# Altium footprint library BSS138.PcbLib: 1 footprints
Each footprint in its own frame and in the unit in brackets; x right, y up, seen from the top. Pads: shape width x height; smd on the part's side, far side on the other; paste and mask are expansions set on the pad; w line width, h text height; cw(c..) or ccw(c..) is an arc to the next point about the centre after c.
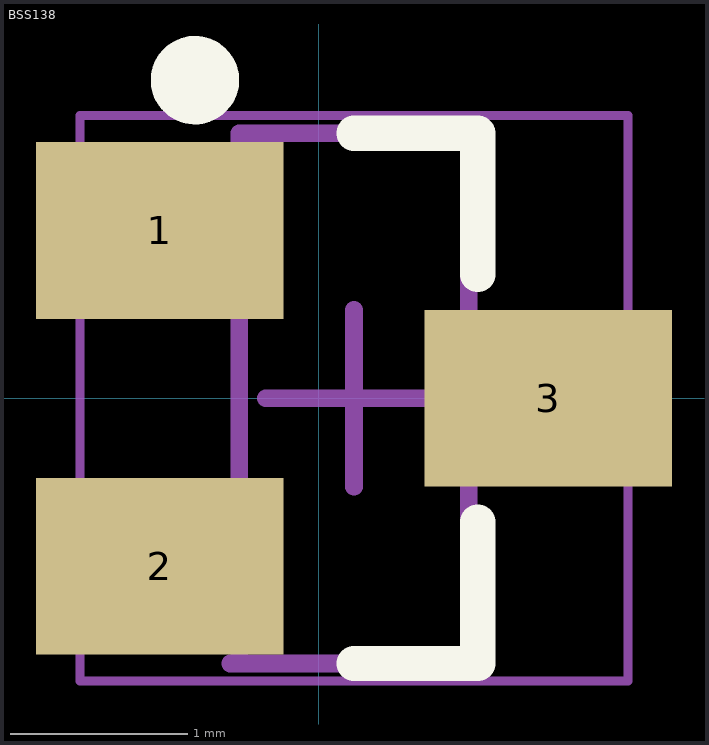
[diagram p0: the footprint, top view; thin cyan lines are the x and y axes]

## BSS138 [mm]
pads (3):
  rect 1.4x1 smd: 1(-0.9,0.95) 2(-0.9,-0.95) 3(1.3,0)
Top Overlay:
  circle w0.25: c-0.7,1.8 r0.125
  lines w0.2: 0.2,-1.5 0.9,-1.5 0.9,-0.7 ; 0.2,1.5 0.9,1.5 0.9,0.7
Mechanical 13:
  lines w0.1: -0.5,-1.5 0.9,-1.5 ; -0.45,-1.5 -0.45,1.5 0.85,1.5 0.85,-1.5
Mechanical 15:
  lines w0.05: -1.35,-1.6 1.75,-1.6 1.75,1.6 -1.35,1.6 -1.35,-1.6
  lines w0.1: -0.3,0 0.7,0 ; 0.2,-0.5 0.2,0.5
3D body: height 1.1, standoff 0, extent -0.5,-1.5 0.9,1.5